# Altium footprint library ds1069_2_mrw6xa.PcbLib: 1 footprints
Each footprint in its own frame and in the unit in brackets; x right, y up, seen from the top. Pads: shape width x height; smd on the part's side, far side on the other; paste and mask are expansions set on the pad; w line width, h text height; cw(c..) or ccw(c..) is an arc to the next point about the centre after c.
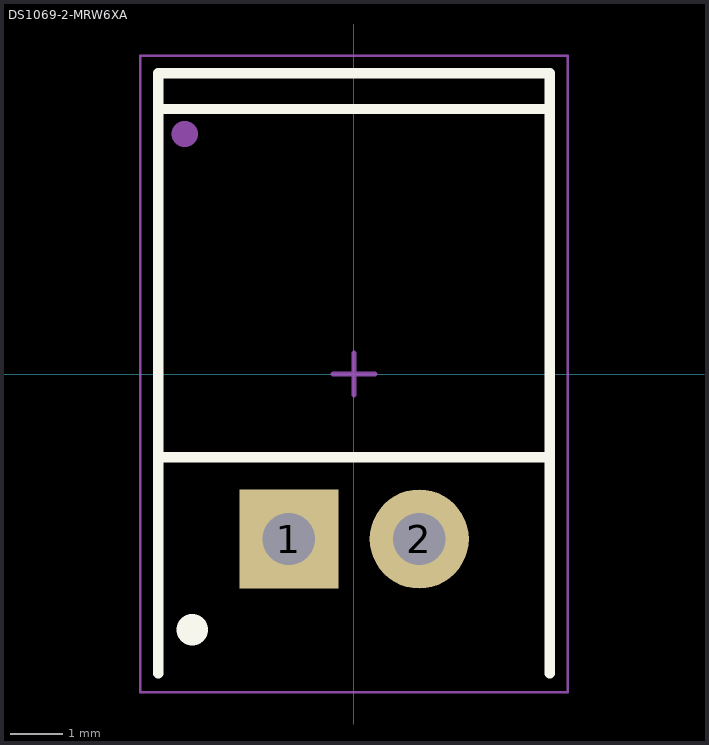
[diagram p0: the footprint, top view; thin cyan lines are the x and y axes]

## DS1069-2-MRW6XA [mm]
height 7
pads (2):
  rect 1.9x1.9 hole 1: 1(-1.249,-3.163)
  round 1.9 hole 1: 2(1.251,-3.163)
Top Overlay:
  circle w0.6: c-3.1,-4.9 r0.001
  lines w0.2: -3.75,-5.737 -3.75,5.763 3.75,5.763 3.75,-5.737 ; -3.75,-1.6 3.75,-1.6 ; -3.75,5.08 3.75,5.08
Top Comment:
  text ".Comment" at 1.2,6.2 h1.2
Top Designator:
  text ".Designator" at -0.4,6.2 h1.2
Top Component Outline:
  lines w0.1: -3.75,5.1 3.75,5.1 ; -3.75,-1.6 -3.75,5.783 3.75,5.783 3.75,-1.6 -3.75,-1.6
  lines w0.5: -3.25,4.6 -3.245,4.605
Top Courtyard (Mech15):
  lines w0.05: -4.1,-6.1 4.1,-6.1 4.1,6.1 -4.1,6.1 -4.1,-6.1
  lines w0.1: -0.4,0 0.4,0 ; 0,-0.4 0,0.4
3D body "DS1069-2R (CWF-2R).step": height 5.85, standoff -3.4, extent -3.75,-5.737 3.75,5.763